# EAGLE library part TX2-9V (library TX2-9V)
Electromechanical Relay 9VDC 579Ohm 2A DPDT (( 15mm 7.4mm 8.2mm)) THT General Purpose Relay Automotive Source: Datasheet <https://componentsearchengine.com/Datasheets/2/TX2-9V.pdf>
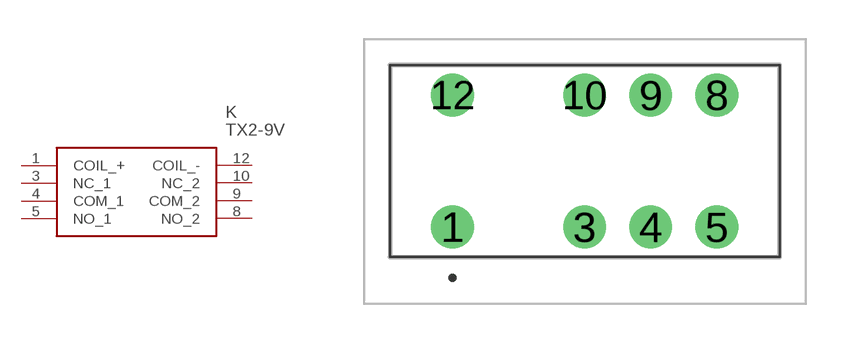
[diagram p0: symbol with the pads of TX29V; footprint TX29V]

Designator prefix K

## TX2-9V (Arrow_Part_Number: TX2-9V; Arrow_Price-Stock: https://www.arrow.com/en/products/tx2-9v/panasonic; Description: Electromechanical Relay 9VDC 579Ohm 2A DPDT (( 15mm 7.4mm 8.2mm)) THT General Purpose Relay Automotive; Height: 8.5mm; Manufacturer_Name: Panasonic; Manufacturer_Part_Number: TX2-9V; Mouser_Part_Number: 769-TX2-9V; Mouser_Price-Stock: https://www.mouser.co.uk/ProductDetail/Panasonic-Industrial-Devices/TX2-9V?qs=UO%2Fx91QLkSCExjygOPYXhQ%3D%3D)  [TX29V]
1  COIL_+
3  NC_1
4  COM_1
5  NO_1
8  NO_2
9  COM_2
10  NC_2
12  COIL_-

## Footprint TX29V (pad centres in mm)
TX2-9V-2
drill 1.1 pad 1.65: 1 0,0; 3 5.08,0; 4 7.62,0; 5 10.16,0; 8 10.16,5.08; 9 7.62,5.08; 10 5.08,5.08; 12 0,5.08